# Altium footprint library WDX-DIY-PCB.PCBLIB: 138 footprints (part 8 of 9)
Each footprint in its own frame and in the unit in brackets; x right, y up, seen from the top. Pads: shape width x height; smd on the part's side, far side on the other; paste and mask are expansions set on the pad; w line width, h text height; cw(c..) or ccw(c..) is an arc to the next point about the centre after c.
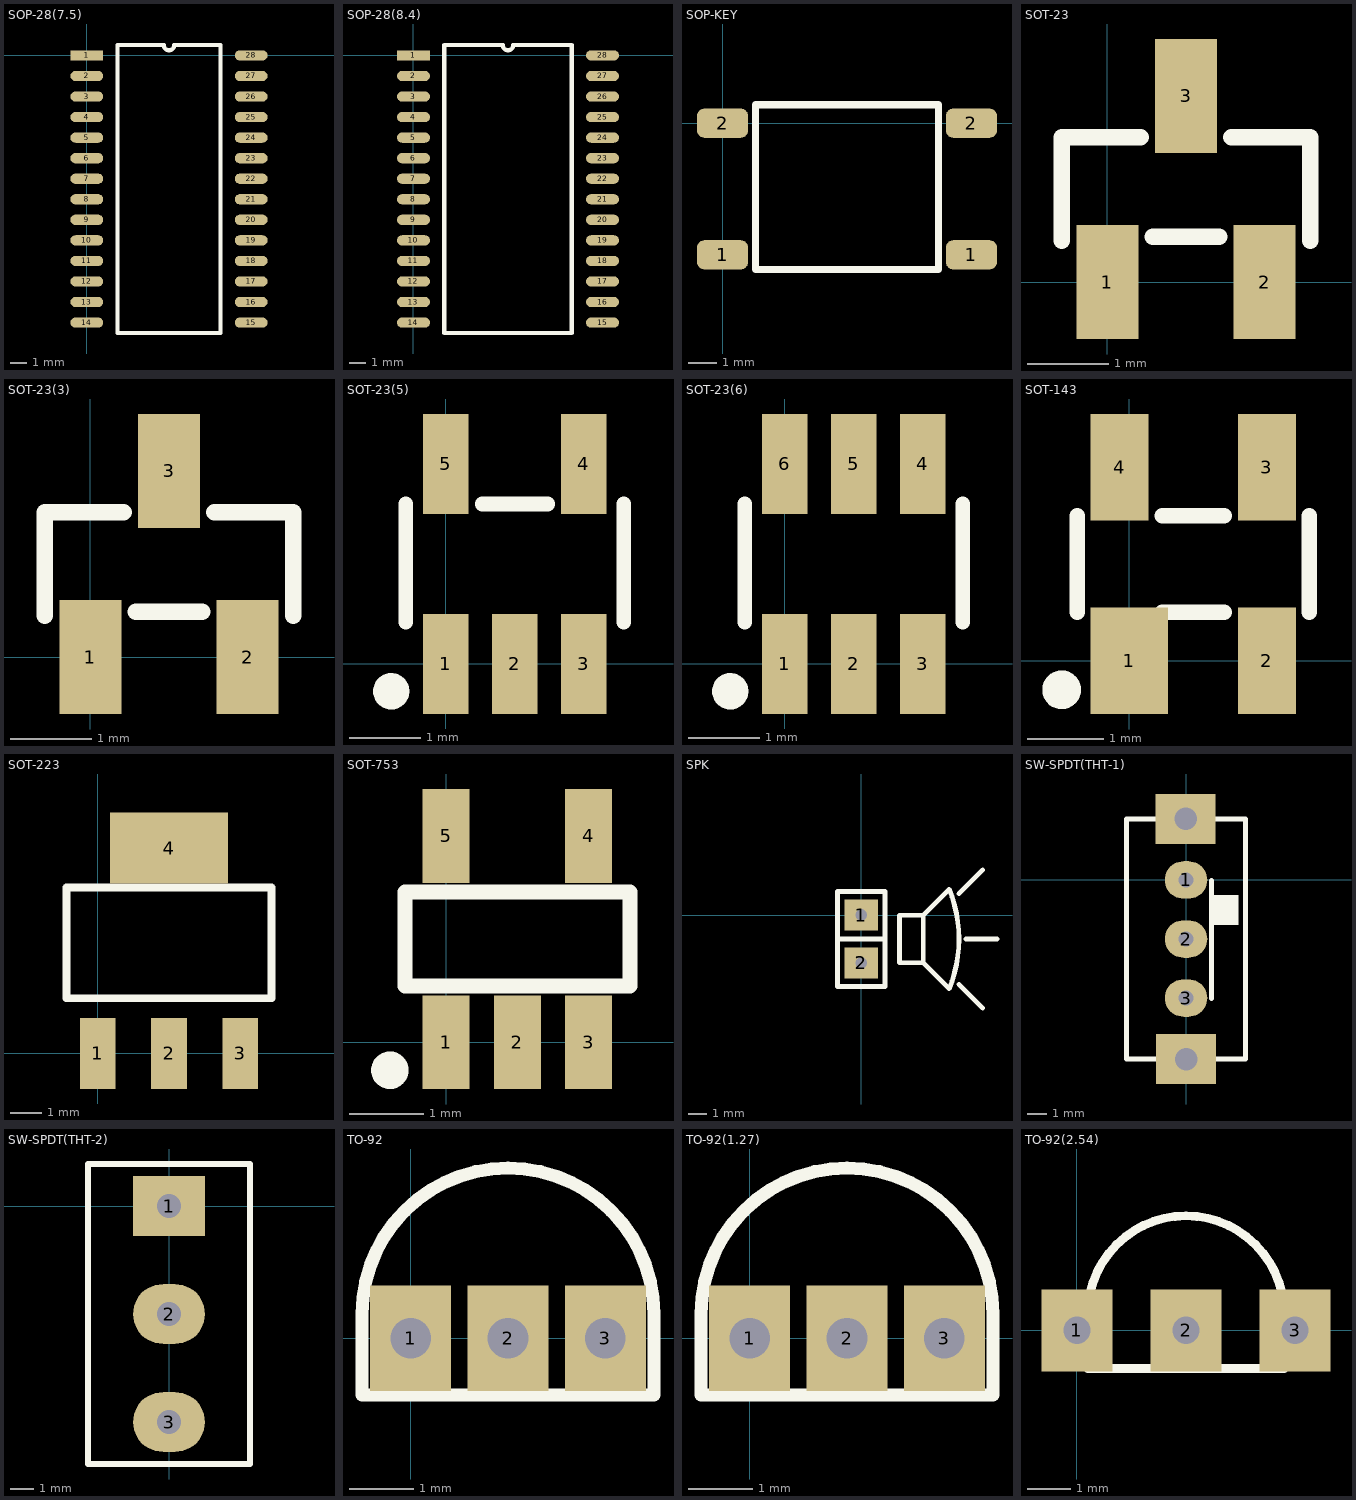
[diagram p7: the footprints below, top view; thin cyan lines are the x and y axes]

## SOP-28(7.5) [mil]
pads (28):
  rect 80x25 smd: 1(0,0)
  oval 80x25 smd: 2(0,-50) 3(0,-100) 4(0,-150) 5(0,-200) 6(0,-250) 7(0,-300) 8(0,-350) 9(0,-400) 10(0,-450) 11(0,-500) 12(0,-550) 13(0,-600) 14(0,-650) 15(400,-650) 16(400,-600) 17(400,-550) 18(400,-500) 19(400,-450) 20(400,-400) 21(400,-350) 22(400,-300) 23(400,-250) 24(400,-200) 25(400,-150) 26(400,-100) 27(400,-50) 28(400,0)
TopOverlay:
  lines w10: 75,-675 325,-675 325,25 212.5,25 cw(c200,25) 187.5,25 75,25 75,-675

## SOP-28(8.4) [mil]
pads (28):
  rect 80x25 smd: 1(0,0)
  oval 80x25 smd: 2(0,-50) 3(0,-100) 4(0,-150) 5(0,-200) 6(0,-250) 7(0,-300) 8(0,-350) 9(0,-400) 10(0,-450) 11(0,-500) 12(0,-550) 13(0,-600) 14(0,-650) 15(460,-650) 16(460,-600) 17(460,-550) 18(460,-500) 19(460,-450) 20(460,-400) 21(460,-350) 22(460,-300) 23(460,-250) 24(460,-200) 25(460,-150) 26(460,-100) 27(460,-50) 28(460,0)
TopOverlay:
  lines w10: 75,-675 75,25 217.5,25 ccw(c230,25) 242.5,25 385,25 385,-675 75,-675

## SOP-KEY [mil]
pads (4):
  rrect50% 70x40 smd: 1(0,-180) 1(340,-180) 2(0,0) 2(340,0)
TopOverlay:
  lines w10: 45,-200 45,25 295,25 295,-200 45,-200

## SOT-23 [mil]
pads (3):
  rect 30x55 smd: 1(0,0) 2(76,0) 3(38,90)
TopOverlay:
  lines w8: -22,20 -22,70 16,70 ; 22,22 54,22 ; 60,70 98,70 98,20

## SOT-23(3) [mil]
pads (3):
  rect 30x55 smd: 1(0,0) 2(76,0) 3(38,90)
TopOverlay:
  lines w8: -22,20 -22,70 16,70 ; 22,22 54,22 ; 60,70 98,70 98,20

## SOT-23(5) [mil]
pads (5):
  rect 25x55 smd: 1(0,0) 2(38,0) 3(76,0) 4(76,110) 5(0,110)
TopOverlay:
  circle w10: c-30,-15 r5
  lines w8: -22,23 -22,88 ; 20,88 56,88 ; 98,23 98,88

## SOT-23(6) [mil]
pads (6):
  rect 25x55 smd: 1(0,0) 2(38,0) 3(76,0) 4(76,110) 5(38,110) 6(0,110)
TopOverlay:
  circle w10: c-30,-15 r5
  lines w8: -22,23 -22,88 ; 98,23 98,88

## SOT-143 [mil]
pads (4):
  rect 40x55 smd: 1(0,0)
  rect 30x55 smd: 2(71,0) 3(71,100) 4(-5,100)
TopOverlay:
  circle w10: c-35,-15 r5
  lines w8: -27,25 -27,75 ; 17,25 49,25 ; 17,75 49,75 ; 93,25 93,75

## SOT-223 [mil]
pads (4):
  rect 45x90 smd: 1(0,0) 2(90,0) 3(180,0)
  rect 150x90 smd: 4(90,260)
TopOverlay:
  lines w10: -40,70 -40,210 220,210 220,70 -40,70

## SOT-753 [mil]
pads (5):
  rect 25x50 smd: 1(0,0) 2(38,0) 3(76,0) 4(76,110) 5(0,110)
TopOverlay:
  circle w10: c-30,-15 r5
  lines w8: -22,30 -22,80 98,80 98,30 -22,30

## SPK [mil]
pads (2):
  rect 70x65 hole 25: 1(0,0) 2(0,-100)
TopOverlay:
  lines w10: -50,-50 50,-50 ; 184.33,-154.72 ccw(c-70,-50) 184.33,54.72 ; 184.33,-154.33 130,-100 ; 184.33,54.33 130,0 ; 205,-145 255,-195 ; 205,45 255,95 ; 220,-50 285,-50 ; 130,-100 80,-100 80,0 130,0 ; 130,-100 130,0 ; -50,-150 -50,50 50,50 50,-150 -50,-150

## SW-SPDT(THT-1) [mil]
pads (5):
  oval 85x75 hole 30: 1(0,0) 2(0,-118.11) 3(0,-236.22)
  rect 120x100 hole 45: ""(-1,121.89) ""(0,-358.11)
TopOverlay:
  region: 55,-30.11 55,-90.11 105,-90.11 105,-30.11
  lines w10: -1,121.89 -119,121.89 -119,-358.11 0,-358.11 119,-358.11 119,121.89 1,121.89 ; 51,-237.11 51,-0.89

## SW-SPDT(THT-2) [mil]
pads (3):
  rect 120x100 hole 40: 1(0,0)
  oval 120x100 hole 40: 2(0,-180) 3(0,-360)
TopOverlay:
  lines w10: -135,-430 135,-430 135,70 -135,70 -135,-430

## TO-92 [mil]
pads (3):
  rect 50x65 hole 25: 1(0,0) 2(60,0) 3(120,0)
TopOverlay:
  lines w8: -30,-35 150,-35 150,15 ccw(c60,15) -30,15 -30,-35

## TO-92(1.27) [mil]
pads (3):
  rect 50x65 hole 25: 1(0,0) 2(60,0) 3(120,0)
TopOverlay:
  lines w8: -30,-35 -30,15 cw(c60,15) 150,15 150,-35 -30,-35

## TO-92(2.54) [mil]
pads (3):
  rect 65x75 hole 25: 1(0,0) 2(100,0) 3(200,0)
TopOverlay:
  lines w8: 10,-35 190,-35 190,15 ccw(c100,15) 10,15 10,-35